# Altium footprint library XIAO-ESP32-C5.PcbLib: 2 footprints
Each footprint in its own frame and in the unit in brackets; x right, y up, seen from the top. Pads: shape width x height; smd on the part's side, far side on the other; paste and mask are expansions set on the pad; w line width, h text height; cw(c..) or ccw(c..) is an arc to the next point about the centre after c.
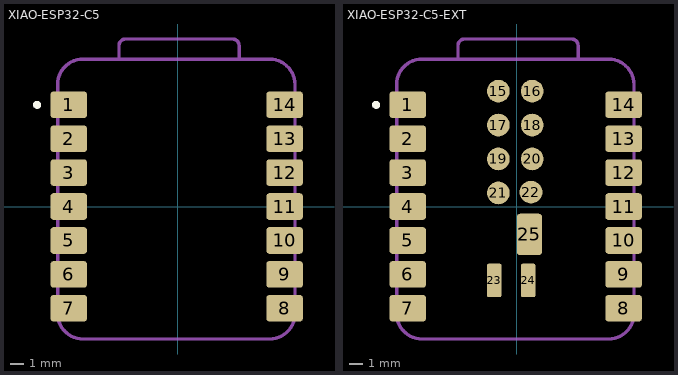
[diagram p0: the footprints below, top view; thin cyan lines are the x and y axes]

## XIAO-ESP32-C5 [mm]
pads (14):
  rrect25% 2.75x2 smd: 1(-8.165,7.62) 2(-8.165,5.08) 3(-8.165,2.54) 4(-8.165,0) 5(-8.165,-2.54) 6(-8.165,-5.08) 7(-8.165,-7.62) 8(8,-7.62) 9(8,-5.08) 10(8,-2.54) 11(8,0) 12(8,2.54) 13(8,5.08) 14(8,7.62)
Top Overlay:
  circle w0.3: c-10.541,7.62 r0.15
Mechanical 15:
  lines w0.254: -9,9.132 -9,-8.013 ccw(c-7.095,-8.013) -7.095,-9.918 6.875,-9.918 ccw(c6.875,-8.013) 8.78,-8.013 8.78,9.132 ccw(c6.875,9.132) 6.875,11.037 -7.095,11.037 ; -9,9.136 cw(c-7.095,9.136) -7.095,11.041 ; -4.405,11.037 -4.401,12.047 cw(c-3.901,12.047) -3.901,12.547 4.094,12.547 cw(c4.094,12.047) 4.594,12.047 4.594,11.037
3D body "Seeed Studio XIAO ESP32-C5.step": height 4.21, standoff 0, extent -9.001,-10.423 8.779,12.04

## XIAO-ESP32-C5-EXT [mm]
pads (25):
  rrect25% 2.75x2 smd: 1(-8.165,7.62) 2(-8.165,5.08) 3(-8.165,2.54) 4(-8.165,0) 5(-8.165,-2.54) 6(-8.165,-5.08) 7(-8.165,-7.62) 8(8,-7.62) 9(8,-5.08) 10(8,-2.54) 11(8,0) 12(8,2.54) 13(8,5.08) 14(8,7.62)
  round 1.7 smd: 15(-1.383,8.642) 16(1.157,8.642) 17(-1.383,6.102) 18(1.157,6.102) 19(-1.383,3.562) 20(1.157,3.562) 21(-1.383,1.022) 22(1.064,1.078)
  rrect25% 1.1x2.5 smd: 23(-1.691,-5.532) 24(0.849,-5.532)
  rrect25% 1.9x3.1 smd: 25(0.949,-2.088)
Top Overlay:
  circle w0.3: c-10.541,7.62 r0.15
Mechanical 15:
  lines w0.254: -9,9.132 -9,-8.013 ccw(c-7.095,-8.013) -7.095,-9.918 6.875,-9.918 ccw(c6.875,-8.013) 8.78,-8.013 8.78,9.132 ccw(c6.875,9.132) 6.875,11.037 -7.095,11.037 ; -9,9.136 cw(c-7.095,9.136) -7.095,11.041 ; -4.405,11.037 -4.401,12.047 cw(c-3.901,12.047) -3.901,12.547 4.094,12.547 cw(c4.094,12.047) 4.594,12.047 4.594,11.037
3D body "Seeed Studio XIAO ESP32-C5.step": height 4.21, standoff 0, extent -9.001,-10.423 8.779,12.04